# EAGLE library part SKY13317 (library chips)
20-6000 MHZ SP3T RF Switch
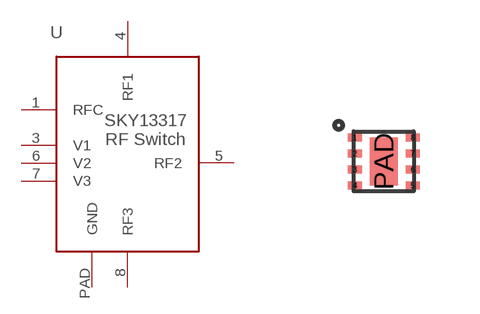
[diagram p68: symbol with the pads of XDFN-8; footprint XDFN-8]

Designator prefix U

## SKY13317 (DIGIKEY: 863-1056-1-ND; MANUFACTURER: Skworks Solutions; MPN: SKY13317-373LF)  [XDFN-8]
1  RFC
3  V1
4  RF1
5  RF2
6  V2
7  V3
8  RF3
PAD  GND

## Footprint XDFN-8 (pad centres in mm)
smd 0.35 x 0.2: 1 0.025,1.35; 2 0.025,0.95; 3 0.025,0.55; 4 0.025,0.15; 5 1.475,0.15; 6 1.475,0.55; 7 1.475,0.95; 8 1.475,1.35
smd 0.7 x 1.2: PAD 0.75,0.75